# EAGLE library part MD03 (library dimrobotics)
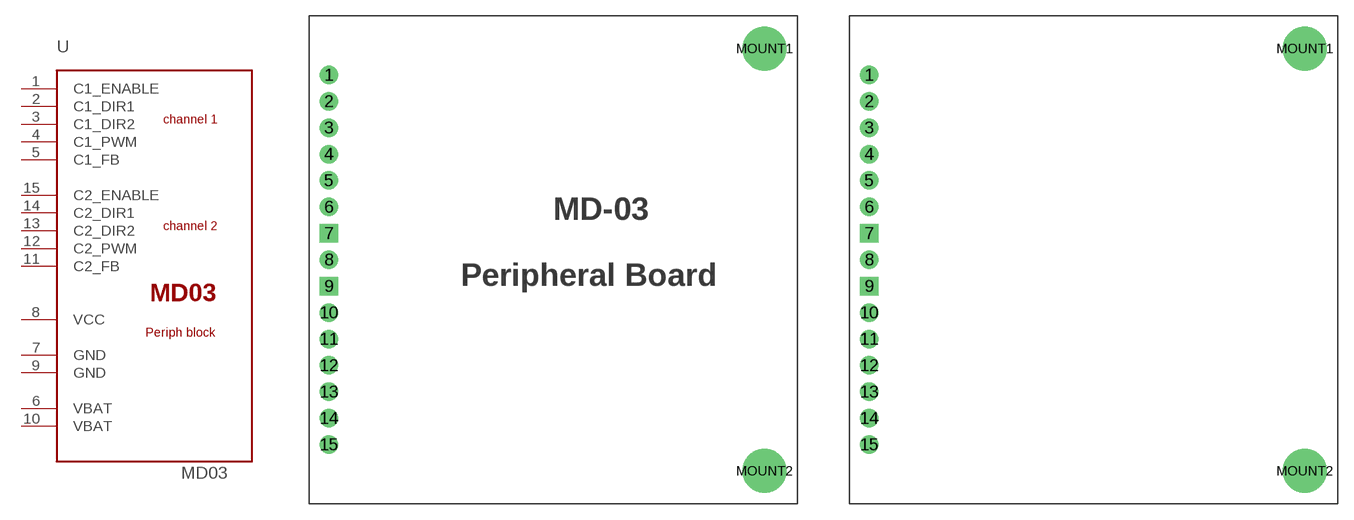
[diagram p1: symbol with the pads of MD03; footprints MD03, MD03-NAKED]

Designator prefix -

## MD03-SILK  [MD03]
1  C1_ENABLE  in
2  C1_DIR1  in
3  C1_DIR2  in
4  C1_PWM  in
5  C1_FB  out
6  VBAT  pwr
7  GND  pwr
8  VCC  pwr
9  GND  pwr
10  VBAT  pwr
11  C2_FB  out
12  C2_PWM  in
13  C2_DIR2  in
14  C2_DIR1  in
15  C2_ENABLE  in

## MD03-NOSILK  [MD03-NAKED]
Pads as for MD03

## Footprint MD03 (pad centres in mm)
drill 0.9 pad 1.778: 1 0,17.78; 2 0,15.24; 3 0,12.7; 4 0,10.16; 5 0,7.62; 6 0,5.08; 8 0,0; 10 0,-5.08; 11 0,-7.62; 12 0,-10.16; 13 0,-12.7; 14 0,-15.24; 15 0,-17.78
drill 0.9 pad 1.778 square: 7 0,2.54; 9 0,-2.54
drill 3.2 pad 3.81: MOUNT1 41.91,20.32; MOUNT2 41.91,-20.32

## Footprint MD03-NAKED (pad centres in mm)
drill 0.9 pad 1.778: 1 0,17.78; 2 0,15.24; 3 0,12.7; 4 0,10.16; 5 0,7.62; 6 0,5.08; 8 0,0; 10 0,-5.08; 11 0,-7.62; 12 0,-10.16; 13 0,-12.7; 14 0,-15.24; 15 0,-17.78
drill 0.9 pad 1.778 square: 7 0,2.54; 9 0,-2.54
drill 3.2 pad 3.81: MOUNT1 41.91,20.32; MOUNT2 41.91,-20.32